# Altium schematic symbol library Dual_JK_FF.SchLib: 1 symbol
Pins are listed as number, name and electrical type; pins without a type are passive.

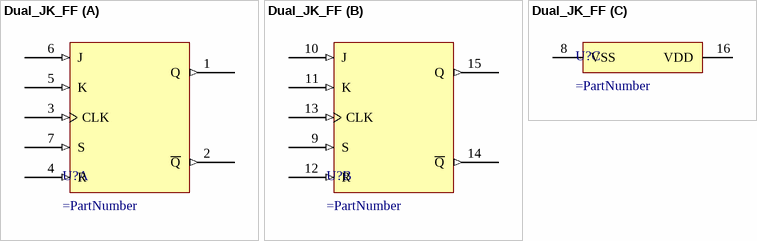
[diagram p0: symbol Dual_JK_FF]

## Dual_JK_FF
designator U?
part A pins: 1 Q (out), 2 ~{Q} (out), 3 CLK (in), 4 R (in), 5 K (in), 6 J (in), 7 S (in)
part B pins: 9 S (in), 10 J (in), 11 K (in), 12 R (in), 13 CLK (in), 14 ~{Q} (out), 15 Q (out)
part C pins: 8 VSS, 16 VDD